# EAGLE library part 66200611122 (library Wire-to-Board)
WR-MPC3 3.00mm Male Single Row Vertical Header, 6 Pins=>Code : Con_WTB_MPC3_1_PCB_66200611122 <http://katalog.we-online.de/media/thumbs2/eican/thb_Con_WTB_MPC3_1_PCB_6620xx11122_pf2.jpg> Details see: http://katalog.we-online.de/en/em/662_0xx_111_22 Created 2014-06-06, Karrer Zheng 2014 (C) Würth Elektronik
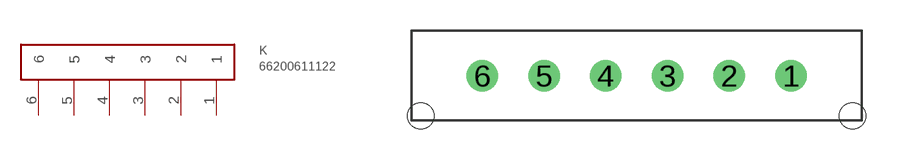
[diagram p326: symbol with the pads of 66200611122; footprint 66200611122]

Designator prefix K

## 66200611122  [66200611122]
1  1
2  2
3  3
4  4
5  5
6  6

## Footprint 66200611122 (pad centres in mm)
WR-MPC3 3.00mm Male Single Row Vertical Header, 6 Pins
drill 1.02: 1 1.5,0; 2 -1.5,0; 3 -4.5,0; 4 -7.5,0; 5 -10.5,0; 6 -13.5,0
hole 1.27 at 4.5,-1.96
hole 1.27 at -16.5,-1.96